# EAGLE library part EG2131 (library custom)
IC MOSFET IGBT Driver Synchronous Dual N-Channel Bootstrap 1/1.5A 300V
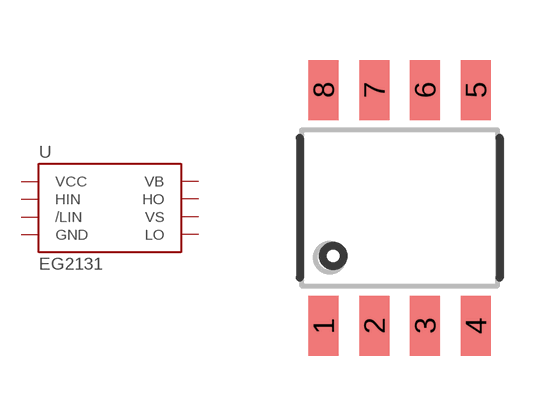
[diagram p152: symbol with the pads of 8-SOIC; footprint 8-SOIC]

Designator prefix U

## EG2131  [8-SOIC]
1  VCC
2  HIN
3  /LIN
4  GND
5  LO
6  VS
7  HO
8  VB

## Footprint 8-SOIC (pad centres in mm)
smd 0.75 x 1.5: 1 -1.905,-2.95; 2 -0.635,-2.95; 3 0.635,-2.95; 4 1.905,-2.95; 5 1.905,2.95; 6 0.635,2.95; 7 -0.635,2.95; 8 -1.905,2.95